# Altium schematic symbol library 623 3xx 235 321.SchLib: 3 symbols
Pins are listed as number, name and electrical type; pins without a type are passive.

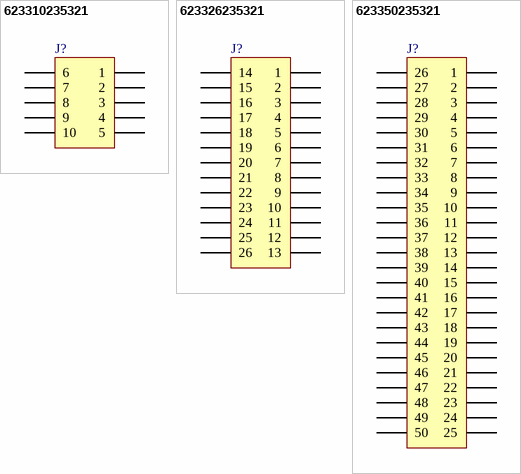
[diagram p0: symbols 623310235321 to 623350235321]

## 623310235321
designator J?, comment 10p  (value not drawn)
WR-PHD 1.27 mm Dual SMT Socket Header Bottom Entry (Reel), 10p; PartNumber: 623310235321; PublishedDate: July 2016; Publisher: Wurth Elektronik; ComponentLink1Description: Manufacturer; ComponentLink1URL: http://www.we-online.de; ComponentLink2Description: Datasheet; ComponentLink2URL: http://katalog.we-online.de/em/datasheet/6233xx235321.pdf; PinNumber: 10p
footprint 623310235321
pins: 1, 2, 3, 4, 5, 6, 7, 8, 9, 10

## 623326235321
designator J?, comment 26p  (value not drawn)
WR-PHD 1.27 mm Dual SMT Socket Header Bottom Entry (Reel), 26p; PartNumber: 623326235321; PublishedDate: July 2016; Publisher: Wurth Elektronik; ComponentLink1Description: Manufacturer; ComponentLink1URL: http://www.we-online.de; ComponentLink2Description: Datasheet; ComponentLink2URL: http://katalog.we-online.de/em/datasheet/6233xx235321.pdf; PinNumber: 26p
footprint 623326235321
pins: 1, 2, 3, 4, 5, 6, 7, 8, 9, 10, 11, 12, 13, 14, 15, 16, 17, 18, 19, 20, 21, 22, 23, 24, 25, 26

## 623350235321
designator J?, comment 50p  (value not drawn)
WR-PHD 1.27 mm Dual SMT Socket Header Bottom Entry (Reel), 50p; PartNumber: 623350235321; PublishedDate: July 2016; Publisher: Wurth Elektronik; ComponentLink1Description: Manufacturer; ComponentLink1URL: http://www.we-online.de; ComponentLink2Description: Datasheet; ComponentLink2URL: http://katalog.we-online.de/em/datasheet/6233xx235321.pdf; PinNumber: 50p
footprint 623350235321
pins: 1, 2, 3, 4, 5, 6, 7, 8, 9, 10, 11, 12, 13, 14, 15, 16, 17, 18, 19, 20, 21, 22, 23, 24, 25, 26, 27, 28, 29, 30, 31, 32, 33, 34, 35, 36, 37, 38, 39, 40, 41, 42, 43, 44, 45, 46, 47, 48, 49, 50